# Altium footprint library SOIC16.PcbLib: 1 footprints
Each footprint in its own frame and in the unit in brackets; x right, y up, seen from the top. Pads: shape width x height; smd on the part's side, far side on the other; paste and mask are expansions set on the pad; w line width, h text height; cw(c..) or ccw(c..) is an arc to the next point about the centre after c.
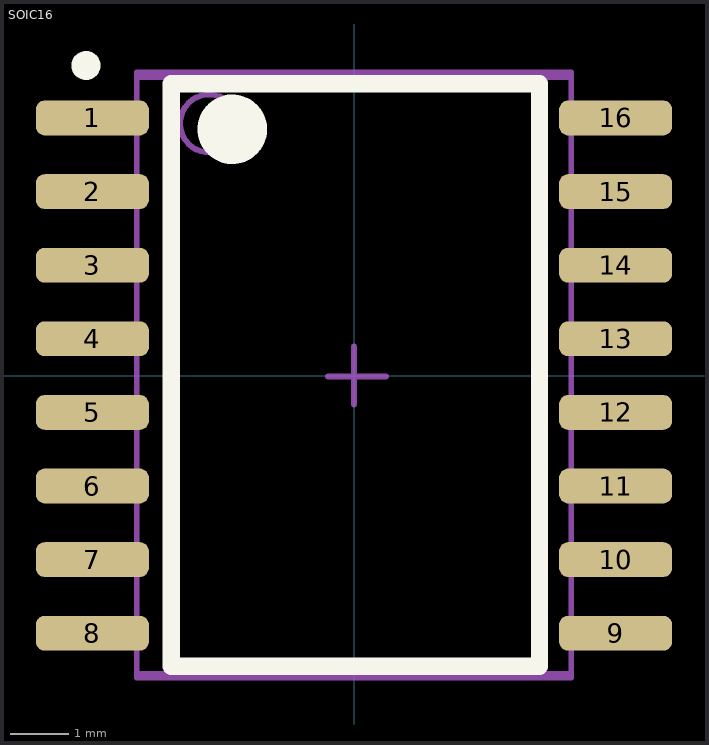
[diagram p0: the footprint, top view; thin cyan lines are the x and y axes]

## SOIC16 [mm]
pads (16):
  rrect50% 1.95x0.6 smd: 1(-4.515,4.445) 2(-4.515,3.175) 3(-4.515,1.905) 4(-4.515,0.635) 5(-4.515,-0.635) 6(-4.515,-1.905) 7(-4.515,-3.175) 8(-4.515,-4.445) 9(4.515,-4.445) 10(4.515,-3.175) 11(4.515,-1.905) 12(4.515,-0.635) 13(4.515,0.635) 14(4.515,1.905) 15(4.515,3.175) 16(4.515,4.445)
Top Overlay:
  circle w0.25: c-4.625,5.35 r0.125
  circle w0.6: c-2.1,4.25 r0.3
  lines w0.3: -3.15,-5.015 -3.15,5.035 3.2,5.035 3.2,-5.015 -3.15,-5.015
Mechanical 13:
  circle w0.1: c-2.5,4.35 r0.5
  lines w0.1: -3.75,-5.15 -3.75,5.15 3.75,5.15 3.75,-5.15 -3.75,-5.15
Mechanical 15:
  lines w0.1: -0.45,-0.015 0.55,-0.015 ; 0,-0.5 0,0.5 ; -3.75,-5.215 -3.75,5.235 3.75,5.235 3.75,-5.215 -3.75,-5.215
3D body: height 1.75, standoff 0.1, extent -3.75,-5.15 3.75,5.15